# Altium footprint library TO229P990X239-3N.PcbLib: 1 footprints
Each footprint in its own frame and in the unit in brackets; x right, y up, seen from the top. Pads: shape width x height; smd on the part's side, far side on the other; paste and mask are expansions set on the pad; w line width, h text height; cw(c..) or ccw(c..) is an arc to the next point about the centre after c.
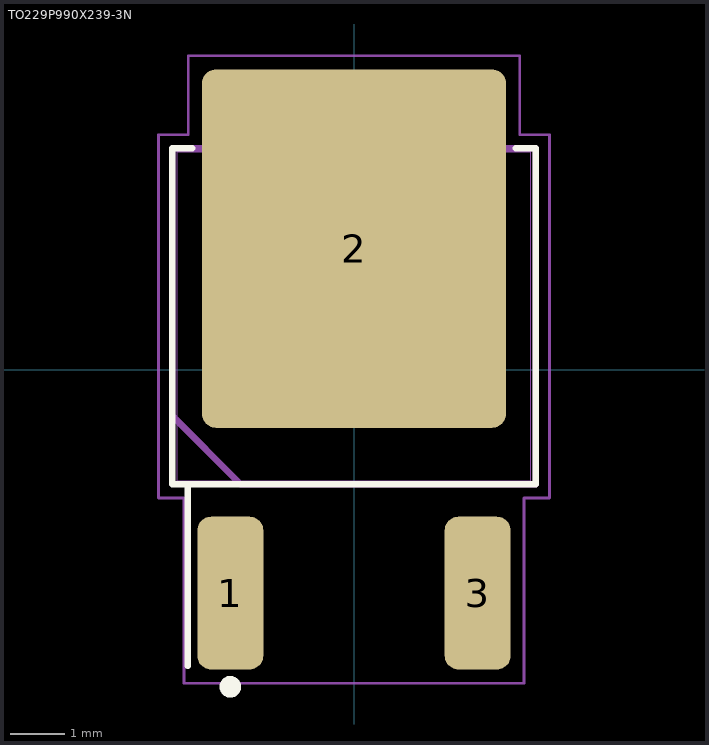
[diagram p0: the footprint, top view; thin cyan lines are the x and y axes]

## TO229P990X239-3N [mm] "Transistor Outline (TO, DPAK), 2.29 mm pitch; 3 pin, 6.095 mm L X 6.54 mm W X 2.39 mm H body"
height 2.39
pads (3):
  rrect41% 1.22x2.83 smd: 1(-2.29,-4.14) 3(2.29,-4.14)
  rrect9% 5.63x6.64 smd paste-6.64 mask+0: 2(0,2.24)
Top Overlay:
  circle w0.2: c-2.29,-5.875 r0.1
  lines w0.12: -3.08,-5.49 -3.08,-2.12 ; -2.995,4.098 -3.37,4.098 -3.37,-2.123 3.37,-2.123 3.37,4.098 2.995,4.098
Top Paste:
  region: 2.365,-0.78 0.445,-0.78 0.445,0.84 2.365,0.84
  region: 2.365,1.43 0.445,1.43 0.445,3.05 2.365,3.05
  region: 2.365,3.64 0.445,3.64 0.445,5.26 2.365,5.26
  region: -0.445,-0.78 -2.365,-0.78 -2.365,0.84 -0.445,0.84
  region: -0.445,1.43 -2.365,1.43 -2.365,3.05 -0.445,3.05
  region: -0.445,3.64 -2.365,3.64 -2.365,5.26 -0.445,5.26
Fab - Detail1, HDI1:
  lines w0.12: -3.37,-0.853 -2.1,-2.123 3.37,-2.123 3.37,4.098 -3.37,4.098 -3.37,-0.853
Fab - Detail2, HDI2:
  lines w0.01: -3.27,-2.06 -3.27,4.035 3.27,4.035 3.27,-2.06 -3.27,-2.06
Courtyards/Models - Top:
  circle w0.05: c0,0 r0.25
  lines w0.05: -0.35,0 0.35,0 ; 0,-0.35 0,0.35 ; -3.62,-2.38 -3.15,-2.38 -3.15,-5.81 3.15,-5.81 3.15,-2.38 3.62,-2.38 3.62,4.35 3.07,4.35 3.07,5.81 -3.07,5.81 -3.07,4.35 -3.62,4.35 -3.62,-2.38